# Altium schematic symbol library CON5.Schlib: 1 symbol
Pins are listed as number, name and electrical type; pins without a type are passive.

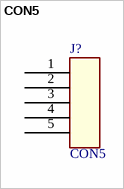
[diagram p0: symbol CON5]

## CON5
designator J?
pins: 1, 2, 3, 4, 5